# EAGLE library part 3SERVOS (library ashield)
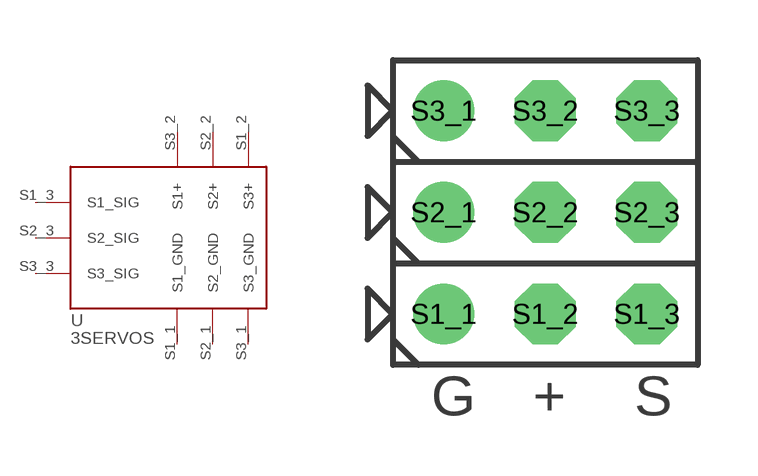
[diagram p7: symbol with the pads of 3SERVOS; footprint 3SERVOS]

Designator prefix -

## 3SERVOS  [3SERVOS]
S1_1  S1_GND  pwr
S1_2  S3+  pwr
S1_3  S1_SIG  in
S2_1  S2_GND  pwr
S2_2  S2+  pwr
S2_3  S2_SIG  in
S3_1  S3_GND  pwr
S3_2  S1+  pwr
S3_3  S3_SIG  in

## Footprint 3SERVOS (pad centres in mm)
drill 1.016 round: S1_1 -2.54,-2.54; S2_1 -2.54,0; S3_1 -2.54,2.54
drill 1.016 octagon: S1_2 0,-2.54; S1_3 2.54,-2.54; S2_2 0,0; S2_3 2.54,0; S3_2 0,2.54; S3_3 2.54,2.54